# Altium schematic symbol library TPS82160.SchLib: 2 symbols
Pins are listed as number, name and electrical type; pins without a type are passive.

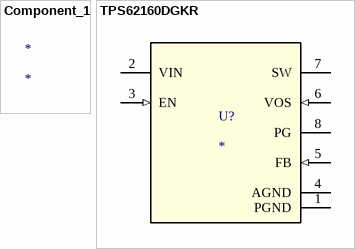
[diagram p0: symbols Component_1 to TPS62160DGKR]

## Component_1
designator *

## TPS62160DGKR
designator U?
Imported; PartNumber: TPS62160DGKR; Alternate PartNumber: TPS62160DGKT; Manufacturer: Texas Instruments; CompType: IC; PIN_COUNT: 8; Application_BuildNumber: *; PackageReference: DGK0008A; MountType: SMT; RoHS: Y; RefDes: RefDes; Type: DEV; Value: Value
footprint DGK0008A_N
pins: 1 PGND (power), 2 VIN (power), 3 EN (in), 4 AGND (power), 5 FB (in), 6 VOS (in), 7 SW (power), 8 PG (hiz)